# Altium footprint library RESDFN3_475X200X100L160X130N.PcbLib: 1 footprints
Each footprint in its own frame and in the unit in brackets; x right, y up, seen from the top. Pads: shape width x height; smd on the part's side, far side on the other; paste and mask are expansions set on the pad; w line width, h text height; cw(c..) or ccw(c..) is an arc to the next point about the centre after c.
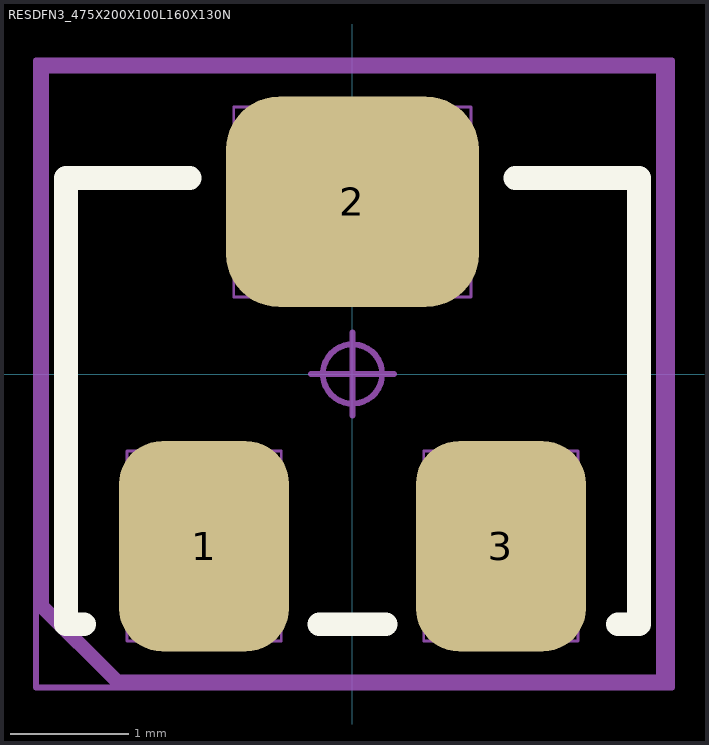
[diagram p0: the footprint, top view; thin cyan lines are the x and y axes]

## RESDFN3_475X200X100L160X130N [mm] "Resistor, Dual Flat No-Lead (DFN 3 Pins), 2.90 mm pitch; 3 pin, 4.75 mm L X 2.00 mm W X 1.00 mm H body"
height 1
pads (3):
  rrect50% 1.43x1.77 smd: 1(-1.25,-1.45) 3(1.25,-1.45)
  rrect50% 2.13x1.77 smd: 2(0,1.45)
Top Overlay:
  lines w0.2: -2.413,-2.057 -2.413,-0.432 ; -2.413,-1.753 -2.413,-2.108 -2.261,-2.108 ; -2.413,-0.457 -2.413,1.651 -1.372,1.651 ; -0.279,-2.108 0.279,-2.108 ; 1.372,1.651 2.413,1.651 2.413,-0.381 2.413,-2.108 2.235,-2.108
Mechanical 3:
  lines w0.12: -2.616,-1.956 -1.981,-2.591 2.616,-2.591 2.616,2.591 -2.616,2.591 -2.616,-1.956
Mechanical 5:
  lines w0.025: -1.9,-2.25 -0.6,-2.25 -0.6,-0.65 -1.9,-0.65 -1.9,-2.25 ; -1,0.65 1,0.65 1,2.25 -1,2.25 -1,0.65 ; 0.6,-2.25 1.9,-2.25 1.9,-0.65 0.6,-0.65 0.6,-2.25
Mechanical 7:
  circle w0.05: c0,0 r0.25
  lines w0.05: -0.35,0 0.35,0 ; 0,-0.35 0,0.35 ; -2.667,-2.642 2.692,-2.642 2.692,2.642 -2.667,2.642 -2.667,-2.642
Mechanical 9:
  text "'.Designator'" at -5.512,-0.33 h1
3D body "PVG5A103C03B00--3DModel-STEP-46669.STEP": height 5.3, standoff 0, extent -2.413,-2.102 2.388,1.798
3D body: height 1.04, standoff 0, extent -2.667,-2.642 2.692,2.642